# Altium schematic symbol library U_OPAMP_LM321.SchLib: 1 symbol
Pins are listed as number, name and electrical type; pins without a type are passive.

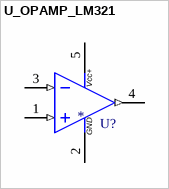
[diagram p0: symbol U_OPAMP_LM321]

## U_OPAMP_LM321
designator U?
pins: 1 INA+ (in), 2 GND (power), 3 INA- (in), 4 OUTA (out), 5 V+ (power)
1 alternate drawing of the same symbol
text: Vcc+